# EAGLE library part 74LVD74A (library FilpFlop)
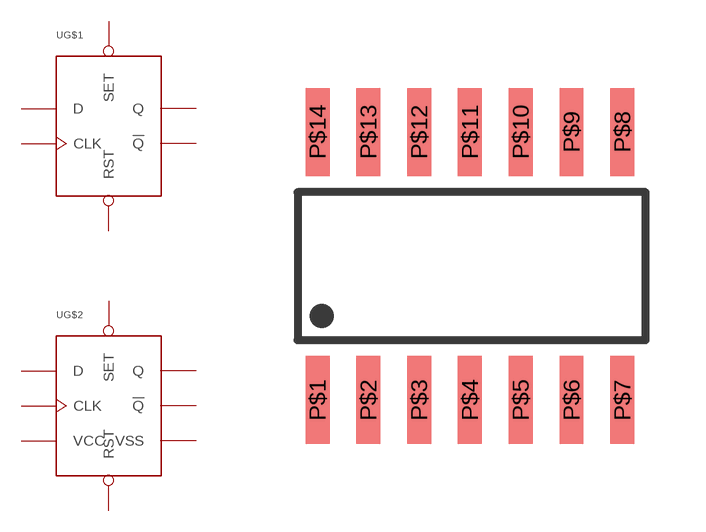
[diagram p0: symbol with the pads of SO-14; footprint SO-14]

Designator prefix U; gates G$1=DFF_WITH_SR G$2=DFF_WITH_SR_PWR

## 74LVD74AD  [SO-14]
P$1  G$1:RST
P$2  G$1:D
P$3  G$1:CLK
P$4  G$1:SET
P$5  G$1:Q
P$6  G$1:!Q!
P$7  G$2:VSS
P$8  G$2:!Q!
P$9  G$2:Q
P$10  G$2:SET
P$11  G$2:CLK
P$12  G$2:D
P$13  G$2:RST
P$14  G$2:VCC

## Footprint SO-14 (pad centres in mm)
smd 0.6 x 2.2: P$1 0,0; P$2 1.27,0; P$3 2.54,0; P$4 3.81,0; P$5 5.08,0; P$6 6.35,0; P$7 7.62,0; P$8 7.62,6.71; P$9 6.35,6.71; P$10 5.08,6.71; P$11 3.81,6.71; P$12 2.54,6.71; P$13 1.27,6.71; P$14 0,6.71